# Altium schematic symbol library Diodes Rectifier.SchLib: 3 symbols
Pins are listed as number, name and electrical type; pins without a type are passive.

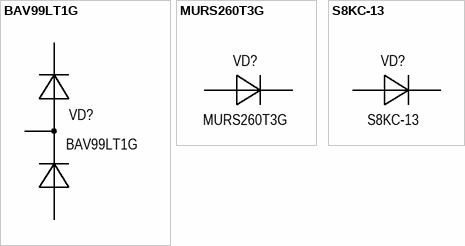
[diagram p0: symbols BAV99LT1G to S8KC-13]

## BAV99LT1G
designator VD?
Diode Rectifier 2-Ch 100V 0.215A(1.25V) 6ns; Manufacturer: ON Semiconductor; Group: Discrete; Forward voltage: 0.985V; Package: SOT-23-3; Part name: BAV99LT1G; Forward current: 0.215A; Component: Diode Rectifier; Dimension: 3.00mm x 2.60mm; Height: 1.10mm; Mounting type: Surface mount; Operating temperature: -65°C +175°C; Reverse voltage: 100V; Reverse recovery time: 6ns
footprint SOT-23-3N
footprint SOT-23-3L
pins: 1 Anode, 2 Cathode, 3 Anode

## MURS260T3G
designator VD?
Diode Rectifier 800V 2A(1.45V) 75ns; Manufacturer: ON Semiconductor; Group: Discrete; Reverse voltage: 600V; Package: DO-214AA; Part name: MURS260T3G; Forward current: 2A; Forward voltage: 1.45V; Component: Diode Rectifier; Dimension: 3.95mm x 5.60mm; Height: 2.50mm; Mounting type: Surface mount; Operating temperature: -65°C +150°C; Reverse recovery time: 75ns
footprint DO-214AA
pins: A Anode, C Cathode

## S8KC-13
designator VD?
Diode Rectifier 800V 8A(0.985V) 2700ns; Manufacturer: ON Semiconductor; Group: Discrete; Package: DO-214AB; Part name: S8KC-13; Forward current: 8A; Forward voltage: 0.985V; Component: Diode Rectifier; Dimension: 6.22mm x 8.13mm; Height: 2.50mm; Mounting type: Surface mount; Operating temperature: -65°C +175°C; Reverse voltage: 800V; Reverse recovery time: 2700ns
footprint DO-214AB
pins: A Anode, C Cathode